# Altium schematic symbol library SCH - MCU - NUVOTON - NUVOTON M0519SE3AE.SchLib: 1 symbol
Pins are listed as number, name and electrical type; pins without a type are passive.

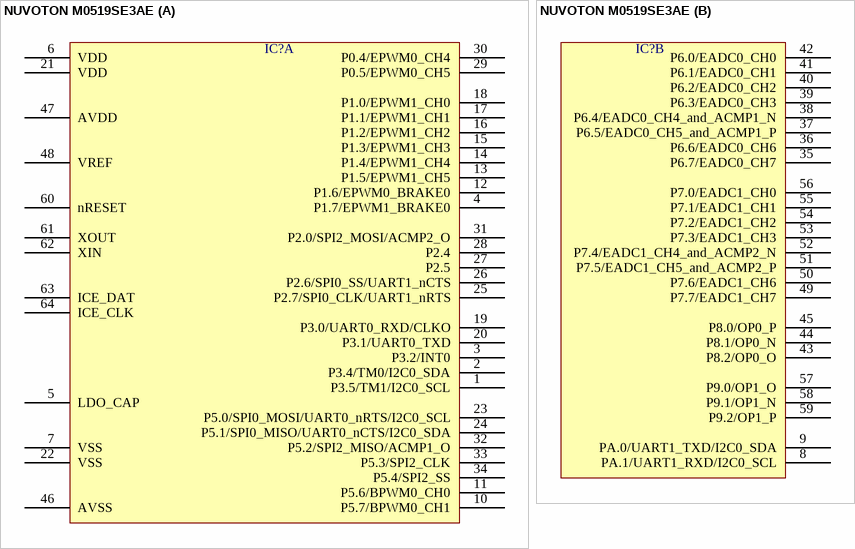
[diagram p0: symbol NUVOTON M0519SE3AE]

## NUVOTON M0519SE3AE
designator IC?  (value not drawn)
part A pins: 1 P3.5/TM1/I2C0_SCL, 2 P3.4/TM0/I2C0_SDA, 3 P3.2/INT0, 4 P1.7/EPWM1_BRAKE0, 5 LDO_CAP, 6 VDD, 7 VSS, 10 P5.7/BPWM0_CH1, 11 P5.6/BPWM0_CH0, 12 P1.6/EPWM0_BRAKE0, 13 P1.5/EPWM1_CH5, 14 P1.4/EPWM1_CH4, 15 P1.3/EPWM1_CH3, 16 P1.2/EPWM1_CH2, 17 P1.1/EPWM1_CH1, 18 P1.0/EPWM1_CH0, 19 P3.0/UART0_RXD/CLKO, 20 P3.1/UART0_TXD, 21 VDD, 22 VSS, 23 P5.0/SPI0_MOSI/UART0_nRTS/I2C0_SCL, 24 P5.1/SPI0_MISO/UART0_nCTS/I2C0_SDA, 25 P2.7/SPI0_CLK/UART1_nRTS, 26 P2.6/SPI0_SS/UART1_nCTS, 27 P2.5, 28 P2.4, 29 P0.5/EPWM0_CH5, 30 P0.4/EPWM0_CH4, 31 P2.0/SPI2_MOSI/ACMP2_O, 32 P5.2/SPI2_MISO/ACMP1_O, 33 P5.3/SPI2_CLK, 34 P5.4/SPI2_SS, 46 AVSS, 47 AVDD, 48 VREF, 60 nRESET, 61 XOUT, 62 XIN, 63 ICE_DAT, 64 ICE_CLK
part B pins: 8 PA.1/UART1_RXD/I2C0_SCL, 9 PA.0/UART1_TXD/I2C0_SDA, 35 P6.7/EADC0_CH7, 36 P6.6/EADC0_CH6, 37 P6.5/EADC0_CH5_and_ACMP1_P, 38 P6.4/EADC0_CH4_and_ACMP1_N, 39 P6.3/EADC0_CH3, 40 P6.2/EADC0_CH2, 41 P6.1/EADC0_CH1, 42 P6.0/EADC0_CH0, 43 P8.2/OP0_O, 44 P8.1/OP0_N, 45 P8.0/OP0_P, 49 P7.7/EADC1_CH7, 50 P7.6/EADC1_CH6, 51 P7.5/EADC1_CH5_and_ACMP2_P, 52 P7.4/EADC1_CH4_and_ACMP2_N, 53 P7.3/EADC1_CH3, 54 P7.2/EADC1_CH2, 55 P7.1/EADC1_CH1, 56 P7.0/EADC1_CH0, 57 P9.0/OP1_O, 58 P9.1/OP1_N, 59 P9.2/OP1_P